# EAGLE library part ATTINY4/5/9/10 (library OpenSourceArt_Eagle_Library)
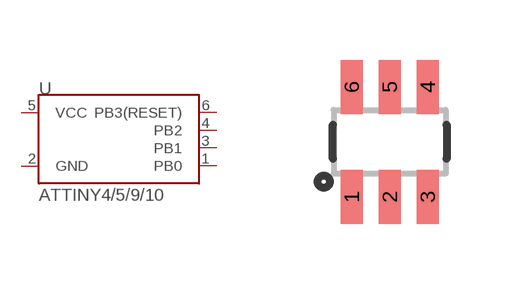
[diagram p0: symbol with the pads of SOT23-6; footprint SOT23-6]

Designator prefix -

## ATTINY4/5/9/10  [SOT23-6]
1  PB0
2  GND
3  PB1
4  PB2
5  VCC
6  PB3(RESET)

## Footprint SOT23-6 (pad centres in mm)
smd 0.55 x 1.35: 1 -0.95,-1.375; 2 0,-1.375; 3 0.95,-1.375; 4 0.95,1.375; 5 0,1.375; 6 -0.95,1.375